# EAGLE library part LMH6619 (library DAC)
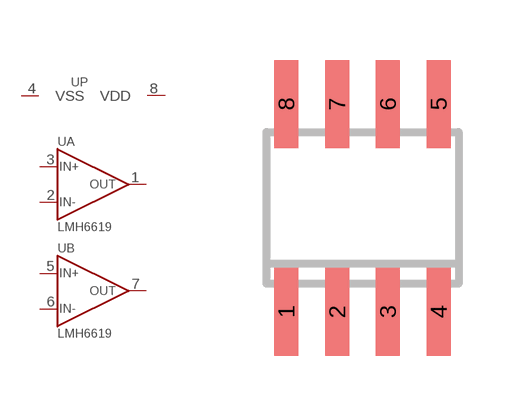
[diagram p28: symbol with the pads of SOIC8; footprint SOIC8]

Designator prefix U; gates B=MULTIOPAMP A=MULTIOPAMP P=PWR2

## LMH6619  [SOIC8]
1  A:OUT  out
2  A:IN-  in
3  A:IN+  in
4  P:VSS  pwr
5  B:IN+  in
6  B:IN-  in
7  B:OUT  out
8  P:VDD  pwr

## Footprint SOIC8 (pad centres in mm)
smd 0.6 x 2.2: 1 -1.905,-2.6; 2 -0.635,-2.6; 3 0.635,-2.6; 4 1.905,-2.6; 5 1.905,2.6; 6 0.635,2.6; 7 -0.635,2.6; 8 -1.905,2.6